# Altium schematic symbol library EG4S20NG88.SchLib: 1 symbol
Pins are listed as number, name and electrical type; pins without a type are passive.

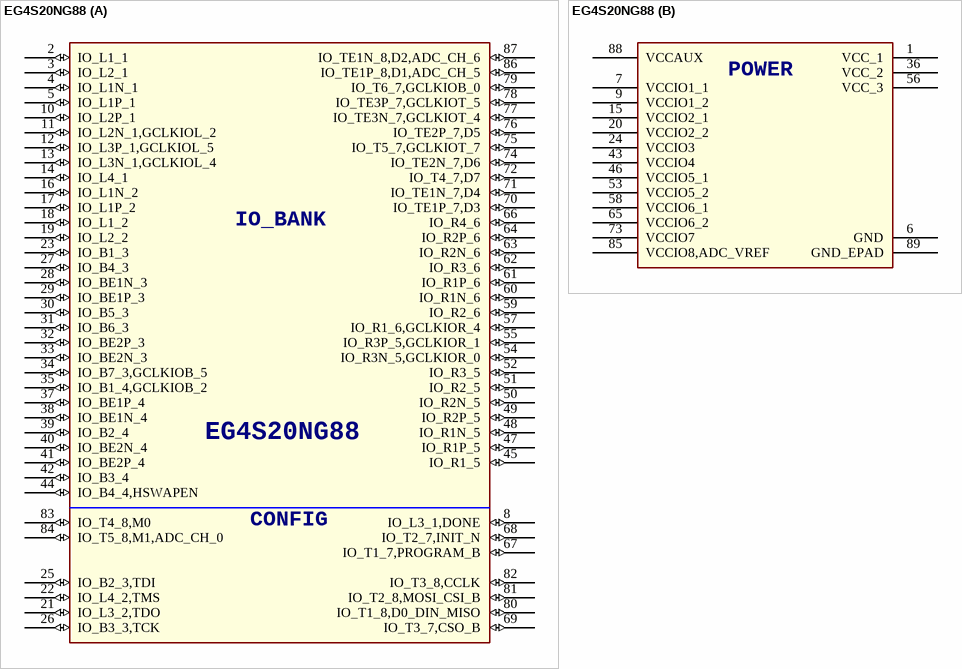
[diagram p0: symbol EG4S20NG88]

## EG4S20NG88
designator U?
SPLIT_INST: TRUE; SWAP_INFO: (S1+S2)
footprint QFN88 (QFN, 88-Leads, Body 10.00x10.00mm, Pitch 0.40mm, Thermal Pad 7.00x7.00mm, IPC Medium Density)
part A pins: 2 IO_L1_1 (io), 3 IO_L2_1 (io), 4 IO_L1N_1 (io), 5 IO_L1P_1 (io), 8 IO_L3_1,DONE (io), 10 IO_L2P_1 (io), 11 IO_L2N_1,GCLKIOL_2 (io), 12 IO_L3P_1,GCLKIOL_5 (io), 13 IO_L3N_1,GCLKIOL_4 (io), 14 IO_L4_1 (io), 16 IO_L1N_2 (io), 17 IO_L1P_2 (io), 18 IO_L1_2 (io), 19 IO_L2_2 (io), 21 IO_L3_2,TDO (io), 22 IO_L4_2,TMS (io), 23 IO_B1_3 (io), 25 IO_B2_3,TDI (io), 26 IO_B3_3,TCK (io), 27 IO_B4_3 (io), 28 IO_BE1N_3 (io), 29 IO_BE1P_3 (io), 30 IO_B5_3 (io), 31 IO_B6_3 (io), 32 IO_BE2P_3 (io), 33 IO_BE2N_3 (io), 34 IO_B7_3,GCLKIOB_5 (io), 35 IO_B1_4,GCLKIOB_2 (io), 37 IO_BE1P_4 (io), 38 IO_BE1N_4 (io), 39 IO_B2_4 (io), 40 IO_BE2N_4 (io), 41 IO_BE2P_4 (io), 42 IO_B3_4 (io), 44 IO_B4_4,HSWAPEN (io), 45 IO_R1_5 (io), 47 IO_R1P_5 (io), 48 IO_R1N_5 (io), 49 IO_R2P_5 (io), 50 IO_R2N_5 (io), 51 IO_R2_5 (io), 52 IO_R3_5 (io), 54 IO_R3N_5,GCLKIOR_0 (io), 55 IO_R3P_5,GCLKIOR_1 (io), 57 IO_R1_6,GCLKIOR_4 (io), 59 IO_R2_6 (io), 60 IO_R1N_6 (io), 61 IO_R1P_6 (io), 62 IO_R3_6 (io), 63 IO_R2N_6 (io), 64 IO_R2P_6 (io), 66 IO_R4_6 (io), 67 IO_T1_7,PROGRAM_B (io), 68 IO_T2_7,INIT_N (io), 69 IO_T3_7,CSO_B (io), 70 IO_TE1P_7,D3 (io), 71 IO_TE1N_7,D4 (io), 72 IO_T4_7,D7 (io), 74 IO_TE2N_7,D6 (io), 75 IO_T5_7,GCLKIOT_7 (io), 76 IO_TE2P_7,D5 (io), 77 IO_TE3N_7,GCLKIOT_4 (io), 78 IO_TE3P_7,GCLKIOT_5 (io), 79 IO_T6_7,GCLKIOB_0 (io), 80 IO_T1_8,D0_DIN_MISO (io), 81 IO_T2_8,MOSI_CSI_B (io), 82 IO_T3_8,CCLK (io), 83 IO_T4_8,M0 (io), 84 IO_T5_8,M1,ADC_CH_0 (io), 86 IO_TE1P_8,D1,ADC_CH_5 (io), 87 IO_TE1N_8,D2,ADC_CH_6 (io)
part B pins: 1 VCC_1 (power), 6 GND (power), 7 VCCIO1_1 (power), 9 VCCIO1_2 (power), 15 VCCIO2_1 (power), 20 VCCIO2_2 (power), 24 VCCIO3 (power), 36 VCC_2 (power), 43 VCCIO4 (power), 46 VCCIO5_1 (power), 53 VCCIO5_2 (power), 56 VCC_3 (power), 58 VCCIO6_1 (power), 65 VCCIO6_2 (power), 73 VCCIO7 (power), 85 VCCIO8,ADC_VREF (power), 88 VCCAUX (power), 89 GND_EPAD (power)
part A text: IO_BANK; CONFIG
part B text: POWER